# Altium footprint library RAC02.PcbLib: 1 footprints
Each footprint in its own frame and in the unit in brackets; x right, y up, seen from the top. Pads: shape width x height; smd on the part's side, far side on the other; paste and mask are expansions set on the pad; w line width, h text height; cw(c..) or ccw(c..) is an arc to the next point about the centre after c.
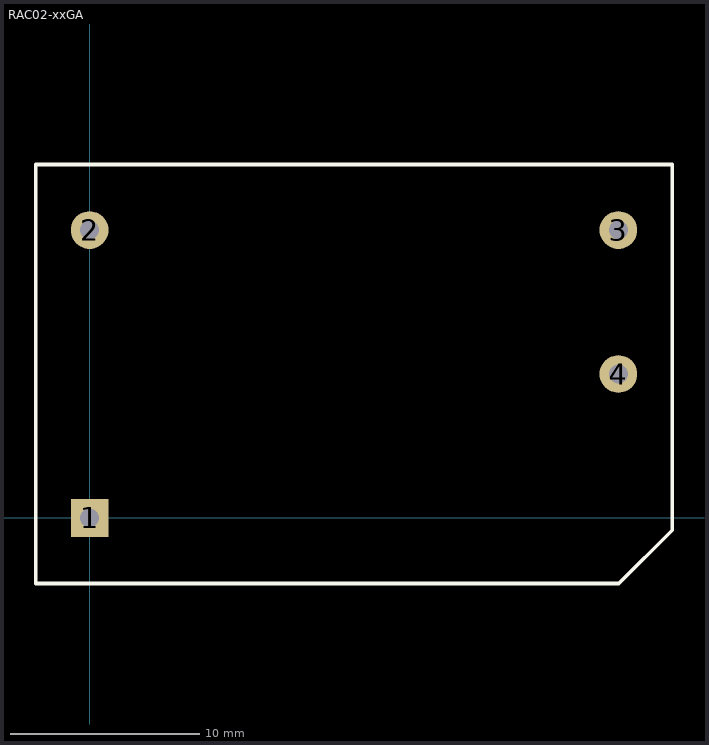
[diagram p0: the footprint, top view; thin cyan lines are the x and y axes]

## RAC02-xxGA [mm]
pads (4):
  rect 2x2 hole 1: 1(0,0)
  round 2 hole 1: 2(0,15.24) 3(28,15.24) 4(28,7.62)
Top Overlay:
  lines w0.2: -2.85,-3.48 -2.85,18.72 30.85,18.72 30.85,-0.65 28.02,-3.48 -2.85,-3.48
3D body: height 19, standoff 0, extent -2.851,-3.481 30.851,18.721